# Altium footprint library resistor.PCBLIB: 427 footprints (part 22 of 27)
Each footprint in its own frame and in the unit in brackets; x right, y up, seen from the top. Pads: shape width x height; smd on the part's side, far side on the other; paste and mask are expansions set on the pad; w line width, h text height; cw(c..) or ccw(c..) is an arc to the next point about the centre after c.
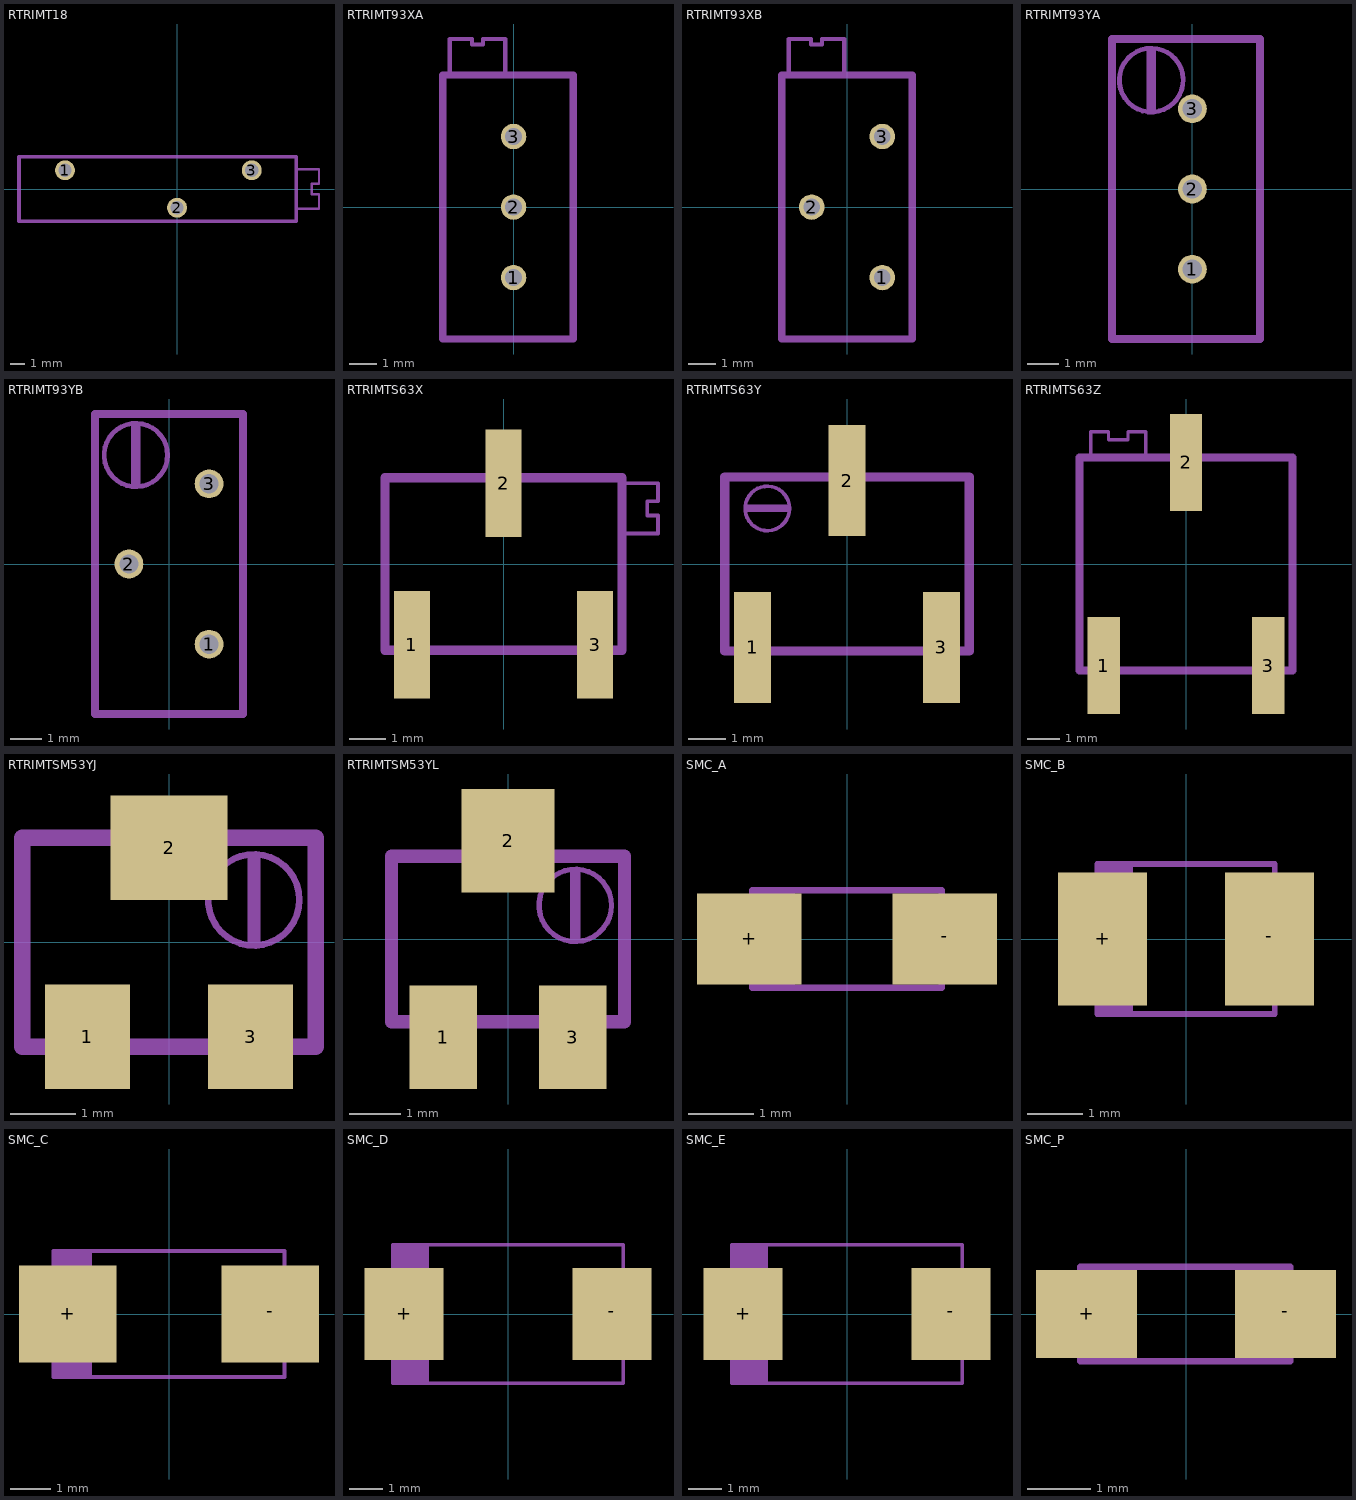
[diagram p21: the footprints below, top view; thin cyan lines are the x and y axes]

## RTRIMT18 [mil]
pads (3):
  round 53.15 hole 35.43: 1(-300,50) 2(0,-50) 3(200,50)
Mechanical 2:
  lines w6: 322.83,-53.15 379.92,-53.15 379.92,-13.78 360.24,-13.78 360.24,13.78 379.92,13.78 379.92,53.15 322.83,53.15
  lines w10: -423.23,-86.61 -423.23,86.61 318.9,86.61 318.9,-86.61 -423.23,-86.61

## RTRIMT93XA [mil]
pads (3):
  round 36 hole 24: 1(0,-100) 2(0,0) 3(0,100)
Mechanical 2:
  lines w6: -90.55,192.91 -90.55,238.19 -59.06,238.19 -59.06,230.32 -43.31,230.32 -43.31,238.19 -11.81,238.19 -11.81,192.91
  lines w10: -100.39,-187.01 -100.39,187.01 84.65,187.01 84.65,-187.01 -100.39,-187.01

## RTRIMT93XB [mil]
pads (3):
  round 36 hole 24: 1(50,-100) 2(-50,0) 3(50,100)
Mechanical 2:
  lines w6: -82.68,192.91 -82.68,238.19 -51.18,238.19 -51.18,230.32 -35.43,230.32 -35.43,238.19 -3.94,238.19 -3.94,192.91
  lines w10: -92.52,-187.01 -92.52,187.01 92.52,187.01 92.52,-187.01 -92.52,-187.01

## RTRIMT93YA [mil]
pads (3):
  round 36 hole 24: 1(0,-100) 2(0,0) 3(0,100)
Mechanical 2:
  rectangle: -57.09,98.43 -45.28,173.23
  lines w6: -29.53,102.36 cw(c-51.18,135.76) -11.81,129.92
  lines w10: -100.39,-187.01 -100.39,187.01 84.65,187.01 84.65,-187.01 -100.39,-187.01
Mechanical 18:
  lines w6: -29.53,102.36 ccw(c-51.18,135.76) -11.81,129.92

## RTRIMT93YB [mil]
pads (3):
  round 36 hole 24: 1(50,-100) 2(-50,0) 3(50,100)
Mechanical 2:
  circle w6: c-41.34,135.83 r39.56
  rectangle: -47.24,98.43 -35.43,173.23
  lines w10: -92.52,-187.01 -92.52,187.01 92.52,187.01 92.52,-187.01 -92.52,-187.01

## RTRIMTS63X [mm]
pads (3):
  rect 1x3 smd: 1(-2.55,-2.25) 2(0,2.25) 3(2.55,-2.25)
Mechanical 2:
  lines w0.102: 3.4,0.85 4.3,0.85 4.3,1.35 4,1.35 4,1.75 4.3,1.75 4.3,2.25 3.4,2.25
  lines w0.254: -3.3,-2.4 -3.3,2.4 -0.8,2.4 ; -1.75,-2.4 1.75,-2.4 ; 0.8,2.4 3.3,2.4 3.3,-2.4
Mechanical 18:
  rectangle: -0.25,2.5 0.25,3.35
  rectangle: 2.3,-3.35 2.8,-2.5
  rectangle: -2.8,-3.35 -2.3,-2.5
  lines w0.254: -3.3,-2.4 -3.3,2.4 3.3,2.4 3.3,-2.4 -3.3,-2.4

## RTRIMTS63Y [mm]
pads (3):
  rect 1x3 smd: 1(-2.55,-2.25) 2(0,2.25) 3(2.55,-2.25)
Mechanical 2:
  circle w0.102: c-2.15,1.5 r0.6
  rectangle: -2.7,1.4 -1.6,1.6
  lines w0.254: -3.3,-2.35 -3.3,2.35 -0.75,2.35 ; -1.75,-2.35 1.75,-2.35 ; 0.75,2.35 3.3,2.35 3.3,-2.35
Mechanical 18:
  rectangle: -0.3,2.45 0.3,3
  rectangle: -2.85,-3 -2.25,-2.45
  rectangle: 2.25,-3 2.85,-2.45
  lines w0.254: -3.3,-2.35 -3.3,2.35 3.3,2.35 3.3,-2.35 -3.3,-2.35

## RTRIMTS63Z [mm]
pads (3):
  rect 1x3 smd: 1(-2.55,-3.15) 2(0,3.15) 3(2.55,-3.15)
Mechanical 2:
  lines w0.102: -2.95,3.45 -2.95,4.1 -2.4,4.1 -2.4,3.85 -1.8,3.85 -1.8,4.1 -1.25,4.1 -1.25,3.4
  lines w0.254: -3.3,-3.3 -3.3,3.3 -0.75,3.3 ; -1.75,-3.3 1.75,-3.3 ; 0.75,3.3 3.3,3.3 3.3,-3.3
Mechanical 18:
  rectangle: -0.3,3.4 0.3,4.4
  rectangle: -2.85,-4.4 -2.25,-3.4
  rectangle: 2.25,-4.4 2.85,-3.4
  lines w0.254: -3.3,-3.3 -3.3,3.3 3.3,3.3 3.3,-3.3 -3.3,-3.3

## RTRIMTSM53YJ [mil]
pads (3):
  rect 51.18x62.99 smd: 1(-49.21,-57.09) 3(49.21,-57.09)
  rect 70.87x62.99 smd: 2(0,57.09)
Mechanical 2:
  rectangle: 47.24,0 55.12,51.18
  lines w10: -88.58,-62.99 -88.58,62.99 -45.28,62.99 ; -15.75,-62.99 15.75,-62.99 ; 45.28,62.99 88.58,62.99 88.58,-62.99
Mechanical 18:
  circle w4: c51.18,25.59 r27.56
  rectangle: -11.81,66.93 11.81,74.8
  rectangle: -62.99,-74.8 -39.37,-66.93
  rectangle: 37.4,-74.8 61.02,-66.93
  lines w10: -88.58,-62.99 -88.58,62.99 88.58,62.99 88.58,-62.99 -88.58,-62.99

## RTRIMTSM53YL [mm]
pads (3):
  rect 1.3x2 smd: 1(-1.25,-1.9) 3(1.25,-1.9)
  rect 1.8x2 smd: 2(0,1.9)
Mechanical 2:
  rectangle: 1.2,0 1.4,1.3
  lines w0.254: -2.25,-1.6 -2.25,1.6 -1.15,1.6 ; -0.35,-1.6 0.35,-1.6 ; 1.15,1.6 2.25,1.6 2.25,-1.6
Mechanical 18:
  circle w0.102: c1.3,0.65 r0.7
  rectangle: -0.3,1.7 0.3,2.55
  rectangle: -1.55,-2.55 -0.95,-1.7
  rectangle: 0.95,-2.55 1.55,-1.7
  lines w0.254: -2.25,-1.6 -2.25,1.6 2.25,1.6 2.25,-1.6 -2.25,-1.6

## SMC_A [mil]
pads (2):
  rect 62.99x55.12 smd: +(-59.06,0) -(59.06,0)
Mechanical 18:
  rectangle: -62.99,-23.62 -55.12,23.62
  region: 62.99,23.62 55.12,23.62 55.12,-23.62 62.99,-23.62
  rectangle: -57.09,-29.53 -31.5,29.53
  lines w4: -57.09,-29.53 57.09,-29.53 57.09,29.53 -57.09,29.53 -57.09,-29.53

## SMC_B [mil]
pads (2):
  rect 62.99x94.49 smd: +(-59.06,0) -(59.06,0)
Mechanical 18:
  rectangle: -68.9,-43.31 -61.02,43.31
  region: 68.9,43.31 61.02,43.31 61.02,-43.31 68.9,-43.31
  rectangle: -62.99,-53.15 -37.4,53.15
  lines w4: -62.99,-53.15 62.99,-53.15 62.99,53.15 -62.99,53.15 -62.99,-53.15

## SMC_C [mil]
pads (2):
  rect 94.49x94.49 smd: +(-98.43,0) -(98.43,0)
Mechanical 18:
  rectangle: -118.11,-43.31 -110.24,43.31
  region: 118.11,43.31 110.24,43.31 110.24,-43.31 118.11,-43.31
  rectangle: -112.2,-61.02 -74.8,61.02
  lines w4: -112.2,-61.02 112.2,-61.02 112.2,61.02 -112.2,61.02 -112.2,-61.02

## SMC_D [mil]
pads (2):
  rect 94.49x110.24 smd: +(-124.02,0) -(124.02,0)
Mechanical 18:
  rectangle: -143.7,-47.24 -135.83,47.24
  region: 143.7,47.24 135.83,47.24 135.83,-47.24 143.7,-47.24
  rectangle: -137.8,-82.68 -94.49,82.68
  lines w4: -137.8,-82.68 137.8,-82.68 137.8,82.68 -137.8,82.68 -137.8,-82.68

## SMC_E [mil]
pads (2):
  rect 94.49x110.24 smd: +(-124.02,0) -(124.02,0)
Mechanical 18:
  rectangle: -143.7,-47.24 -135.83,47.24
  region: 143.7,47.24 135.83,47.24 135.83,-47.24 143.7,-47.24
  rectangle: -137.8,-82.68 -94.49,82.68
  lines w4: -137.8,-82.68 137.8,-82.68 137.8,82.68 -137.8,82.68 -137.8,-82.68

## SMC_P [mil]
pads (2):
  rect 62.99x55.12 smd: +(-62.01,0) -(62.01,0)
Mechanical 18:
  rectangle: -70.87,-17.72 -66.93,17.72
  region: 70.87,17.72 66.93,17.72 66.93,-17.72 70.87,-17.72
  rectangle: -64.96,-29.53 -42.32,28.54
  lines w4: -65.94,-29.53 64.96,-29.53 64.96,29.53 -65.94,29.53 -65.94,-29.53